# EAGLE library part ADG212A* (library AD_Quad_Switch)
Quad SPST Switch (LC2MOS) These Switches feature hight switching speets and low Ron TTL/CMOS Compatible Replaces DG212
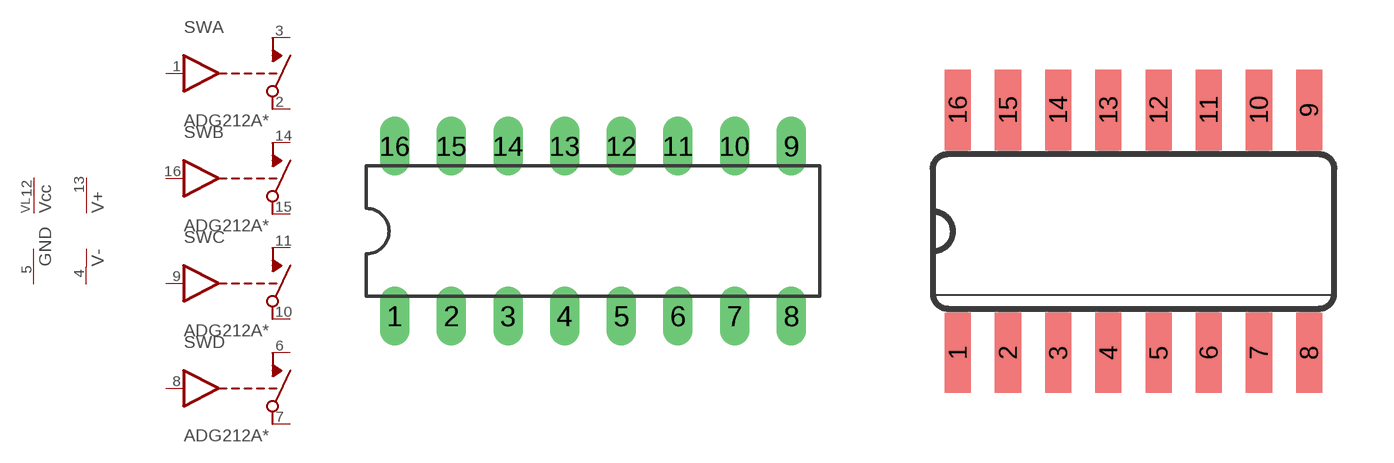
[diagram p1: symbol with the pads of DIL16; footprints DIL16, SO16]

Designator prefix SW; gates A=SPST_SWITCH B=SPST_SWITCH C=SPST_SWITCH D=SPST_SWITCH LPWR=LPWR+GND PWR=PWR+-

## ADG212AKN  [DIL16]
1  A:IN  in
2  A:D
3  A:S
4  PWR:V-  pwr
5  LPWR:GND  pwr
6  D:S
7  D:D
8  D:IN  in
9  C:IN  in
10  C:D
11  C:S
12  LPWR:VCC  pwr
13  PWR:V+  pwr
14  B:S
15  B:D
16  B:IN  in

## ADG212AKR  [SO16]
Pads as for DIL16

## ADG212AKP  [PLCC20S]
2  A:IN  in
3  A:D
4  A:S
5  PWR:V-  pwr
7  LPWR:GND  pwr
8  D:S
9  D:D
10  D:IN  in
12  C:IN  in
13  C:D
14  C:S
15  LPWR:VCC  pwr
17  PWR:V+  pwr
18  B:S
19  B:D
20  B:IN  in

## Footprint DIL16 (pad centres in mm)
Dual In Line Package
drill 0.813 long: 1 -8.89,-3.81; 2 -6.35,-3.81; 3 -3.81,-3.81; 4 -1.27,-3.81; 5 1.27,-3.81; 6 3.81,-3.81; 7 6.35,-3.81; 8 8.89,-3.81; 9 8.89,3.81; 10 6.35,3.81; 11 3.81,3.81; 12 1.27,3.81; 13 -1.27,3.81; 14 -3.81,3.81; 15 -6.35,3.81; 16 -8.89,3.81

## Footprint SO16 (pad centres in mm)
Small Outline Package 16
smd 0.66 x 2.032: 1 -4.445,-3.073; 2 -3.175,-3.073; 3 -1.905,-3.073; 4 -0.635,-3.073; 5 0.635,-3.073; 6 1.905,-3.073; 7 3.175,-3.073; 8 4.445,-3.073; 9 4.445,3.073; 10 3.175,3.073; 11 1.905,3.073; 12 0.635,3.073; 13 -0.635,3.073; 14 -1.905,3.073; 15 -3.175,3.073; 16 -4.445,3.073

## Footprint PLCC20S (pad centres in mm)
Plastic Leaded Chip Carrier
smd 0.6 x 2.2: 1 0,4.3; 2 -1.27,4.3; 3 -2.54,4.3; 9 -2.54,-4.3; 10 -1.27,-4.3; 11 0,-4.3; 12 1.27,-4.3; 13 2.54,-4.3; 19 2.54,4.3; 20 1.27,4.3
smd 2.2 x 0.6: 4 -4.3,2.54; 5 -4.3,1.27; 6 -4.3,0; 7 -4.3,-1.27; 8 -4.3,-2.54; 14 4.3,-2.54; 15 4.3,-1.27; 16 4.3,0; 17 4.3,1.27; 18 4.3,2.54